# EAGLE library part FFC-11 (library con-ffc)
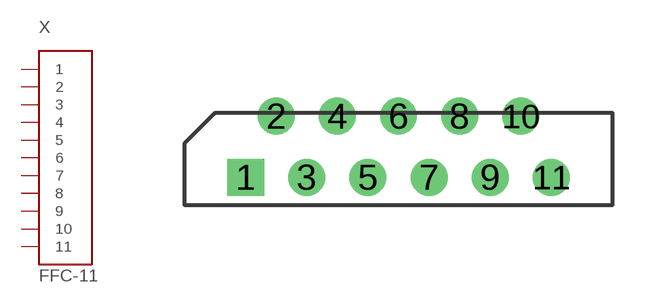
[diagram p0: symbol with the pads of 11; footprint 11]

Designator prefix X

## FFC-11PHT  [11]
1  1
2  2
3  3
4  4
5  5
6  6
7  7
8  8
9  9
10  10
11  11

## Footprint 11 (pad centres in mm)
drill 0.7 square: 1 0,0
drill 0.7 round: 2 1,2; 3 2,0; 4 3,2; 5 4,0; 6 5,2; 7 6,0; 8 7,2; 9 8,0; 10 9,2; 11 10,0